# Altium integrated library Receiver.IntLib: 89 symbols (part 3 of 3)
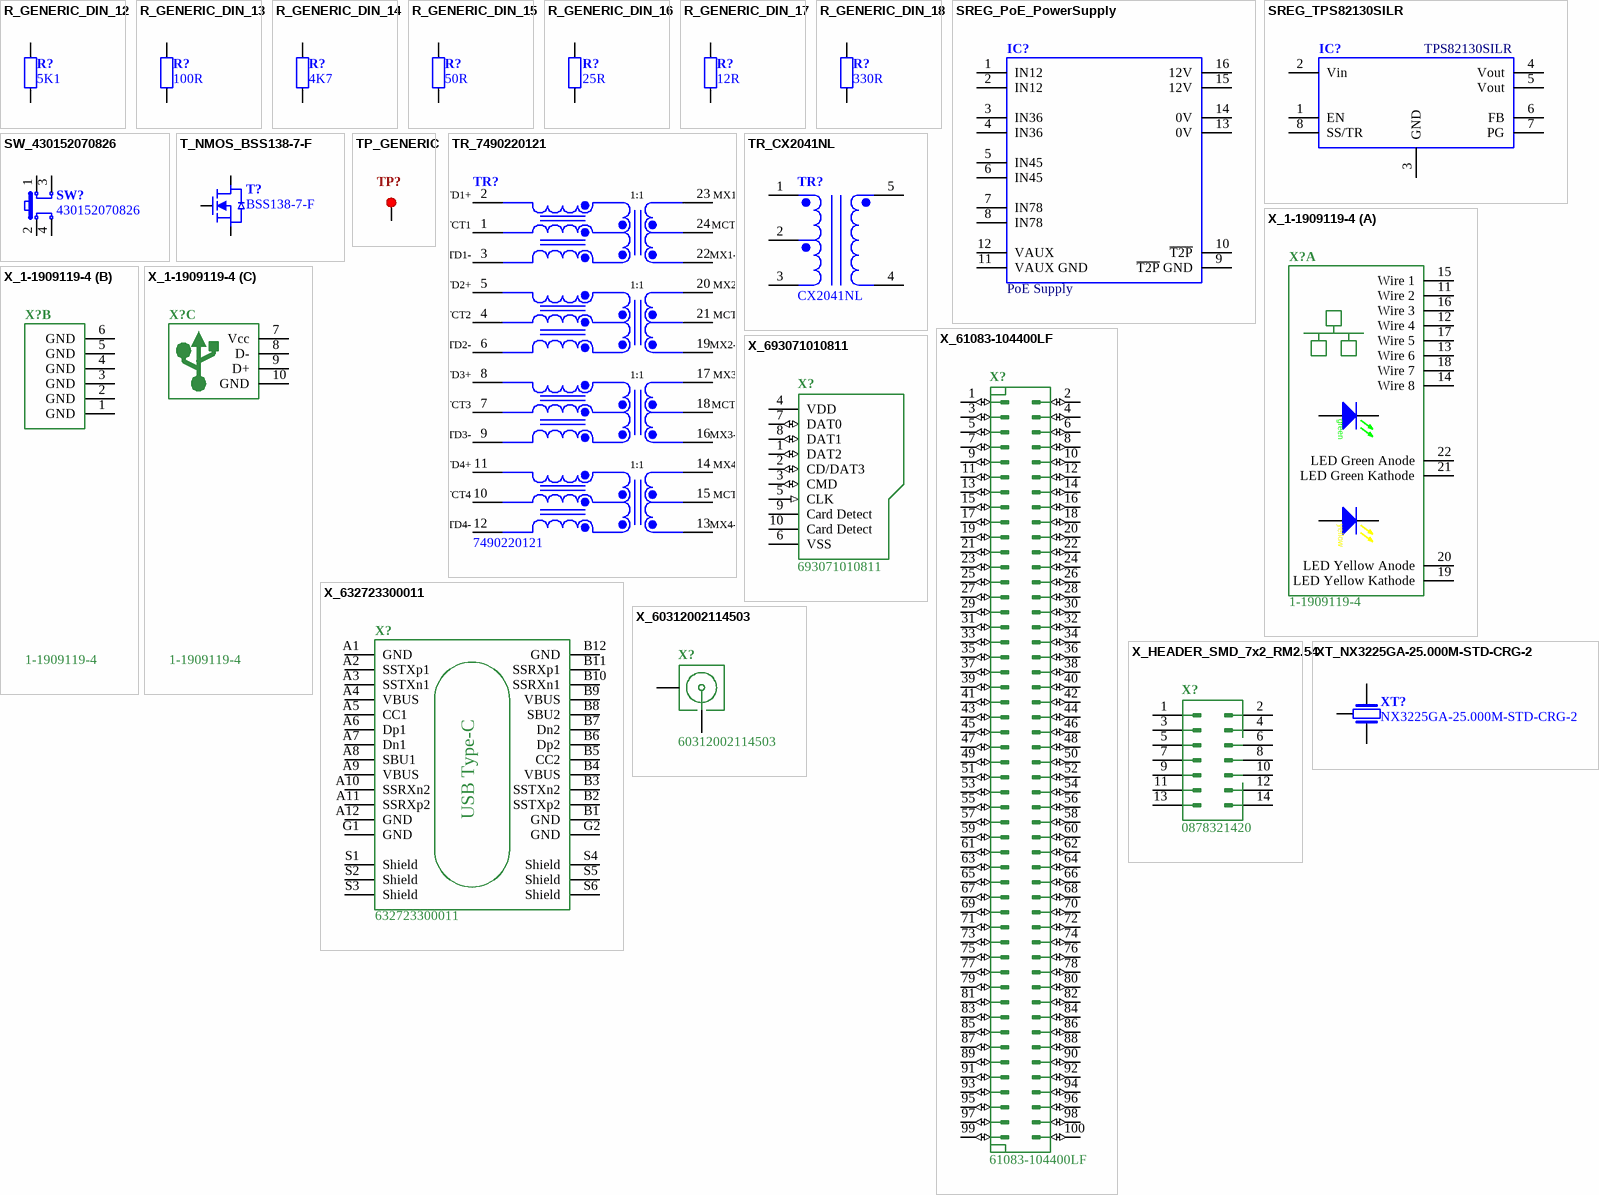
[diagram p4: symbols R_GENERIC_DIN_12 to XT_NX3225GA-25.000M-STD-CRG-2]

## R_GENERIC_DIN_16
designator R?, comment 25R
Prometheus_ID: *; Prometheus_ManPartNo: 25R; Prometheus_Manufacturer: *; Prometheus_Comment: 25R
footprint R_0201_L [RESC0603L IPC] (0201 imperial (0603 metric) chip resistor, least copper)
footprint R_0201_M [RESC0603M IPC] (0201 imperial (0603 metric) chip resistor, max copper)
footprint R_0201_N [RESC0603N IPC] (0201 imperial (0603 metric) chip resistor, nominal copper)
footprint R_0603_L [RESC1608L IPC] (0603 imperial (1608 metric) chip resistor, least copper)
footprint R_0603_M [RESC1608M IPC] (0603 imperial (1608 metric) chip resistor, max copper)
footprint R_0603_N [RESC1608N IPC] (0603 imperial (1608 metric) chip resistor, nominal copper)
footprint R_0805_L [RESC2013L IPC] (0805 imperial (2013 metric) chip resistor, least copper)
footprint R_0805_M [RESC2013M IPC] (0805 imperial (2013 metric) chip resistor, max copper)
footprint R_0805_N [RESC2013N IPC] (0805 imperial (2013 metric) chip resistor, nominal copper)
footprint R_1206_L [RESC3216L IPC] (1206 imperial (3216 metric) chip resistor, least copper)
footprint R_1206_M [RESC3216M IPC] (1206 imperial (3216 metric) chip resistor, max copper)
footprint R_1206_N [RESC3216N IPC] (1206 imperial (3216 metric) chip resistor, nominal copper)
footprint R_1210_L [RESC3225L IPC] (1210 imperial (3225 metric) chip resistor, least copper)
footprint R_1210_M [RESC3225M IPC] (1210 imperial (3225 metric) chip resistor, max copper)
footprint R_1210_N [RESC3225N IPC] (1210 imperial (3225 metric) chip resistor, nominal copper)
footprint R_2512_L [RESC6332L IPC] (2512 imperial (6332 metric) chip resistor, least copper)
footprint R_2512_M [RESC6332M IPC] (2512 imperial (6332 metric) chip resistor, max copper)
footprint R_2512_N [RESC6332N IPC] (2512 imperial (6332 metric) chip resistor, nominal copper)
footprint R_0402_L [RESC1005L IPC] (0402 imperial (1005 metric) chip resistor, least copper)
footprint R_0402_M [RESC1005M IPC] (0402 imperial (1005 metric) chip resistor, max copper)
footprint R_0402_N [RESC1005N IPC] (0402 imperial (1005 metric) chip resistor, nominal copper)
pins: 1, 2

## R_GENERIC_DIN_17
designator R?, comment 12R
Prometheus_ID: *; Prometheus_ManPartNo: 12R; Prometheus_Manufacturer: *; Prometheus_Comment: 12R
footprint R_0201_L [RESC0603L IPC] (0201 imperial (0603 metric) chip resistor, least copper)
footprint R_0201_M [RESC0603M IPC] (0201 imperial (0603 metric) chip resistor, max copper)
footprint R_0201_N [RESC0603N IPC] (0201 imperial (0603 metric) chip resistor, nominal copper)
footprint R_0603_L [RESC1608L IPC] (0603 imperial (1608 metric) chip resistor, least copper)
footprint R_0603_M [RESC1608M IPC] (0603 imperial (1608 metric) chip resistor, max copper)
footprint R_0603_N [RESC1608N IPC] (0603 imperial (1608 metric) chip resistor, nominal copper)
footprint R_0805_L [RESC2013L IPC] (0805 imperial (2013 metric) chip resistor, least copper)
footprint R_0805_M [RESC2013M IPC] (0805 imperial (2013 metric) chip resistor, max copper)
footprint R_0805_N [RESC2013N IPC] (0805 imperial (2013 metric) chip resistor, nominal copper)
footprint R_1206_L [RESC3216L IPC] (1206 imperial (3216 metric) chip resistor, least copper)
footprint R_1206_M [RESC3216M IPC] (1206 imperial (3216 metric) chip resistor, max copper)
footprint R_1206_N [RESC3216N IPC] (1206 imperial (3216 metric) chip resistor, nominal copper)
footprint R_1210_L [RESC3225L IPC] (1210 imperial (3225 metric) chip resistor, least copper)
footprint R_1210_M [RESC3225M IPC] (1210 imperial (3225 metric) chip resistor, max copper)
footprint R_1210_N [RESC3225N IPC] (1210 imperial (3225 metric) chip resistor, nominal copper)
footprint R_2512_L [RESC6332L IPC] (2512 imperial (6332 metric) chip resistor, least copper)
footprint R_2512_M [RESC6332M IPC] (2512 imperial (6332 metric) chip resistor, max copper)
footprint R_2512_N [RESC6332N IPC] (2512 imperial (6332 metric) chip resistor, nominal copper)
footprint R_0402_L [RESC1005L IPC] (0402 imperial (1005 metric) chip resistor, least copper)
footprint R_0402_M [RESC1005M IPC] (0402 imperial (1005 metric) chip resistor, max copper)
footprint R_0402_N [RESC1005N IPC] (0402 imperial (1005 metric) chip resistor, nominal copper)
pins: 1, 2

## R_GENERIC_DIN_18
designator R?, comment 330R
Prometheus_ManPartNo: ERJ-3EKF3300V; Prometheus_Manufacturer: Panasonic Electronic Components; Prometheus_ID: *; Prometheus_Comment: 330R
footprint R_0201_L [RESC0603L IPC] (0201 imperial (0603 metric) chip resistor, least copper)
footprint R_0201_M [RESC0603M IPC] (0201 imperial (0603 metric) chip resistor, max copper)
footprint R_0201_N [RESC0603N IPC] (0201 imperial (0603 metric) chip resistor, nominal copper)
footprint R_0603_L [RESC1608L IPC] (0603 imperial (1608 metric) chip resistor, least copper)
footprint R_0603_M [RESC1608M IPC] (0603 imperial (1608 metric) chip resistor, max copper)
footprint R_0603_N [RESC1608N IPC] (0603 imperial (1608 metric) chip resistor, nominal copper)
footprint R_0805_L [RESC2013L IPC] (0805 imperial (2013 metric) chip resistor, least copper)
footprint R_0805_M [RESC2013M IPC] (0805 imperial (2013 metric) chip resistor, max copper)
footprint R_0805_N [RESC2013N IPC] (0805 imperial (2013 metric) chip resistor, nominal copper)
footprint R_1206_L [RESC3216L IPC] (1206 imperial (3216 metric) chip resistor, least copper)
footprint R_1206_M [RESC3216M IPC] (1206 imperial (3216 metric) chip resistor, max copper)
footprint R_1206_N [RESC3216N IPC] (1206 imperial (3216 metric) chip resistor, nominal copper)
footprint R_1210_L [RESC3225L IPC] (1210 imperial (3225 metric) chip resistor, least copper)
footprint R_1210_M [RESC3225M IPC] (1210 imperial (3225 metric) chip resistor, max copper)
footprint R_1210_N [RESC3225N IPC] (1210 imperial (3225 metric) chip resistor, nominal copper)
footprint R_2512_L [RESC6332L IPC] (2512 imperial (6332 metric) chip resistor, least copper)
footprint R_2512_M [RESC6332M IPC] (2512 imperial (6332 metric) chip resistor, max copper)
footprint R_2512_N [RESC6332N IPC] (2512 imperial (6332 metric) chip resistor, nominal copper)
footprint R_0402_L [RESC1005L IPC] (0402 imperial (1005 metric) chip resistor, least copper)
footprint R_0402_M [RESC1005M IPC] (0402 imperial (1005 metric) chip resistor, max copper)
footprint R_0402_N [RESC1005N IPC] (0402 imperial (1005 metric) chip resistor, nominal copper)
pins: 1, 2

## SREG_PoE_PowerSupply
designator IC?, comment PoE Supply
Prometheus_Manufacturer: Prometheus; Prometheus_ManPartNo: PoE Supply; Prometheus_Comment: PoE Supply
footprint SREG_PoE_PowerSupply Prometheus (PoE Power Supply)
pins: 1 IN12, 2 IN12, 3 IN36, 4 IN36, 5 IN45, 6 IN45, 7 IN78, 8 IN78, 9 ~{T2P} GND, 10 ~{T2P} (oc), 11 VAUX GND, 12 VAUX, 13 0V, 14 0V, 15 12V, 16 12V

## SREG_TPS82130SILR
designator IC?, comment TPS82130SILR
Step-Down DC/DC / Vin = 4 V to 17 V / Vout = 0.9 V to 6 V Adjustable / Iout = 3 A; Prometheus_Manufacturer: Texas Instruments; Prometheus_ManPartNo: TPS82130SILR; Prometheus_Comment: TPS82130SILR
pins: 1 EN, 2 Vin, 3 GND, 4 Vout, 5 Vout, 6 FB, 7 PG (oc), 8 SS/TR

## SW_430152070826
designator SW?, comment 430152070826
WS-TASV SMT Tactile Switch / Height: 4.6 mm / Actuating Force: 160g; Prometheus_Manufacturer: Wuerth Electronics; Prometheus_ID: *; Prometheus_ManPartNo: 430152070826; Prometheus_Comment: 430152070826
footprint SW_430152070826 (Switch Tactile)
pins: 1, 2, 3, 4

## T_NMOS_BSS138-7-F
designator T?, comment BSS138-7-F
VDS = 50 V / VDG = 50 V / VGS = +-20 V / ID = 200 mA / VGS_th = typ. 1.2 V / RDS_on = typ. 1.4 OHM; Prometheus_Manufacturer: Diodes Incorporated; Prometheus_ID: *; Prometheus_ManPartNo: BSS138-7-F; Prometheus_Comment: BSS138-7-F; ComponentLink1Description: Datasheet; ComponentLink1URL: https://www.diodes.com/assets/Datasheets/ds30144.pdf
footprint SOT105P235X102-3N IPC (SOT23, 3-Leads, Body 2.85x2.35mm, Pitch 1.05mm, IPC Medium Density)
pins: D, G, S

## TP_GENERIC
designator TP?  (value not drawn)  (no BOM)
Needle Test Point; Prometheus_ID: *; Prometheus_ManPartNo: TP_GENERIC; Prometheus_Manufacturer: *; Prometheus_Comment: TP_GENERIC
footprint TP_0.8_P100T (Testpoint 0.8mm, 100mil Spacing)
pins: 1

## TR_7490220121
designator TR?, comment 7490220121
Operating temperature: -40°C - +105°C / 1000BaseT according to IEEE 802.3bt / for 4PPoE / 600 mA per center tap / 30 W when using two channels / 60 W when using four channels; Prometheus_Manufacturer: Wuerth; Prometheus_ID: *; Prometheus_ManPartNo: 7490220121; Prometheus_Comment: 7490220121
footprint TR_7490220121
pins: 1 TCT1, 2 TD1+, 3 TD1-, 4 TCT2, 5 TD2+, 6 TD2-, 7 TCT3, 8 TD3+, 9 TD3-, 10 TCT4, 11 TD4+, 12 TD4-, 13 MX4-, 14 MX4+, 15 MCT4, 16 MX3-, 17 MX3+, 18 MCT3, 19 MX2-, 20 MX2+, 21 MCT2, 22 MX1-, 23 MX1+, 24 MCT1
text: 1:1

## TR_CX2041NL
designator TR?, comment CX2041NL
Balun / 1:1 with center tap / 3 dB Bandwidth: 0.05 MHz to 450 MHz; Prometheus_Manufacturer: Pulse Engineering; Prometheus_ID: *; Prometheus_ManPartNo: CX2041NL; Prometheus_Comment: CX2041NL
footprint TR_CX2041NL
pins: 1, 2, 3, 4, 5

## X_1-1909119-4
designator X?, comment 1-1909119-4
Combo Jack RJ45 + USB / Green and Yellow Led; Prometheus_Manufacturer: TE Connectivity; Prometheus_ID: *; Prometheus_ManPartNo: 1-1909119-4; Prometheus_Comment: 1-1909119-4
footprint X_1-1909119-4 (USB Ethernet Combo Jack)
part A pins: 11 Wire 2, 12 Wire 4, 13 Wire 6, 14 Wire 8, 15 Wire 1, 16 Wire 3, 17 Wire 5, 18 Wire 7, 19 LED Yellow Kathode, 20 LED Yellow Anode, 21 LED Green Kathode, 22 LED Green Anode
part B pins: 1 GND, 2 GND, 3 GND, 4 GND, 5 GND, 6 GND
part C pins: 7 Vcc, 8 D-, 9 D+, 10 GND
part A text: green; yellow

## X_61083-104400LF
designator X?, comment 61083-104400LF
BergStak® 0.80mm Pitch / Mezzanine Connector / Vertical Header / Double Row / 100 Positions / Height: 7.7mm; Prometheus_Manufacturer: Amphenol ICC; Prometheus_ID: *; Prometheus_ManPartNo: 61083-104400LF; Prometheus_Comment: 61083-104400LF
footprint X_61083-104400LF
pins: 1 (io), 2 (io), 3 (io), 4 (io), 5 (io), 6 (io), 7 (io), 8 (io), 9 (io), 10 (io), 11 (io), 12 (io), 13 (io), 14 (io), 15 (io), 16 (io), 17 (io), 18 (io), 19 (io), 20 (io), 21 (io), 22 (io), 23 (io), 24 (io), 25 (io), 26 (io), 27 (io), 28 (io), 29 (io), 30 (io), 31 (io), 32 (io), 33 (io), 34 (io), 35 (io), 36 (io), 37 (io), 38 (io), 39 (io), 40 (io), 41 (io), 42 (io), 43 (io), 44 (io), 45 (io), 46 (io), 47 (io), 48 (io), 49 (io), 50 (io), 51 (io), 52 (io), 53 (io), 54 (io), 55 (io), 56 (io), 57 (io), 58 (io), 59 (io), 60 (io), 61 (io), 62 (io), 63 (io), 64 (io), 65 (io), 66 (io), 67 (io), 68 (io), 69 (io), 70 (io), 71 (io), 72 (io), 73 (io), 74 (io), 75 (io), 76 (io), 77 (io), 78 (io), 79 (io), 80 (io), 81 (io), 82 (io), 83 (io), 84 (io), 85 (io), 86 (io), 87 (io), 88 (io), 89 (io), 90 (io), 91 (io), 92 (io), 93 (io), 94 (io), 95 (io), 96 (io), 97 (io), 98 (io), 99 (io), 100 (io)

## X_632723300011
designator X?, comment 632723300011
USB Type-C Receptabel / Horizontal / 1.6 mm PCB thickness; Prometheus_Manufacturer: Wuerth Electronics; Prometheus_ID: *; Prometheus_ManPartNo: 632723300011; Prometheus_Comment: 632723300011
footprint X_632723300011 (USB 3.1 Type C Receptacle Horizontal THR)
pins: A1 GND, A2 SSTXp1, A3 SSTXn1, A4 VBUS, A5 CC1, A6 Dp1, A7 Dn1, A8 SBU1, A9 VBUS, A10 SSRXn2, A11 SSRXp2, A12 GND, B1 GND, B2 SSTXp2, B3 SSTXn2, B4 VBUS, B5 CC2, B6 Dp2, B7 Dn2, B8 SBU2, B9 VBUS, B10 SSRXn1, B11 SSRXp1, B12 GND, G1 GND, G2 GND, S1 Shield, S2 Shield, S3 Shield, S4 Shield, S5 Shield, S6 Shield
text: USB Type-C

## X_693071010811
designator X?, comment 693071010811
WR-CRD Micro SD Card Connector, Push & Push, with card detection; Prometheus_Manufacturer: Wuerth Electronics; Prometheus_ID: *; Prometheus_ManPartNo: 693071010811; Prometheus_Comment: 693071010811
footprint X_693071010811 (Connector Push & Push - with Card Detection - 8 Pins)
pins: 1 DAT2 (io), 2 CD/DAT3 (io), 3 CMD (io), 4 VDD, 5 CLK (in), 6 VSS, 7 DAT0 (io), 8 DAT1 (io), 9 Card Detect "Shielding", 10 Card Detect

## X_60312002114503
designator X?, comment 60312002114503
SMA Jack Straight / Type: 348; Prometheus_Manufacturer: Wuerth Electronics; Prometheus_ID: *; Prometheus_ManPartNo: 60312002114503; Prometheus_Comment: 60312002114503
footprint X_60312002114503
pins: 1 Sig, 2 GND

## X_HEADER_SMD_7x2_RM2.54
designator X?, comment 0878321420
Pin-Header RM2.54, straight, 7pin, dual row; Prometheus_Manufacturer: Molex; Prometheus_ID: *; Prometheus_ManPartNo: 0878321420; Prometheus_Comment: 0878321420
footprint X_SMD_HEADER2x7_P254_H0_Prometheus (Standard footprint for RM2.54 Pin Header, SMD)
pins: 1, 2, 3, 4, 5, 6, 7, 8, 9, 10, 11, 12, 13, 14

## XT_NX3225GA-25.000M-STD-CRG-2
designator XT?, comment NX3225GA-25.000M-STD-CRG-2
25 MHz / 8 pF; Prometheus_Manufacturer: NDK; Prometheus_ID: *; Prometheus_ManPartNo: NX3225GA-25.000M-STD-CRG-2; Prometheus_Comment: NX3225GA-25.000M-STD-CRG-2; DatasheetURL: https://www.ndk.com/images/products/catalog/c_NX3225GA-STD-CRG-2_e.pdf
footprint XT_SMD_320x250_H100_4PIN (320x250mm 4-pin XTAL)
pins: 1, 3, SH